# Altium footprint library SMD3225.PcbLib: 1 footprints
Each footprint in its own frame and in the unit in brackets; x right, y up, seen from the top. Pads: shape width x height; smd on the part's side, far side on the other; paste and mask are expansions set on the pad; w line width, h text height; cw(c..) or ccw(c..) is an arc to the next point about the centre after c.
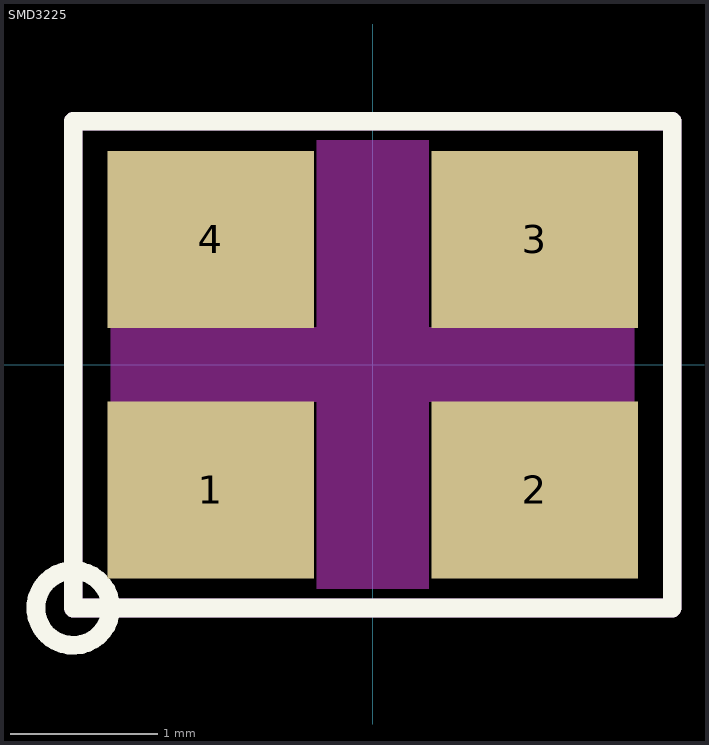
[diagram p0: the footprint, top view; thin cyan lines are the x and y axes]

## SMD3225 [mm]
pads (4):
  rect 1.4x1.2 smd mask+0.04: 1(-1.1,-0.85) 2(1.1,-0.85) 3(1.1,0.85) 4(-1.1,0.85)
Top Overlay:
  circle w0.127: c-2.032,-1.651 r0.254
  lines w0.127: -2.032,-1.651 2.032,-1.651 2.032,1.651 -2.032,1.651 -2.032,-1.651
Keep-Out Layer:
  region: 1.778,-0.254 1.778,0.254 -1.778,0.254 -1.778,-0.254
  rectangle: -0.381,-1.524 0.381,1.524
Mechanical 15:
  lines w0.127: -2.032,-1.651 2.032,-1.651 2.032,1.651 -2.032,1.651 -2.032,-1.651